# EAGLE library part OPA2690 (library kamiki)
Dual, Wideband, Voltage-Feedback Operational Amplifier with Disable
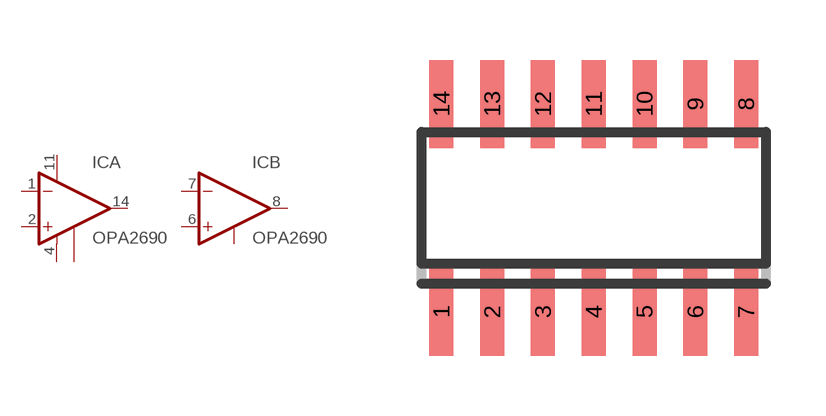
[diagram p24: symbol with the pads of SO14; footprint SO14]

Designator prefix IC; gates A=OP-AMP+-INH B=OP-AMP-INH

## OPA2690-14D  [SO14]
1  A:-IN  in
2  A:+IN  in
3  A:-DISABLE  in
4  A:V-  pwr
5  B:-DISABLE  in
6  B:+IN  in
7  B:-IN  in
8  B:OUT  out
11  A:V+  pwr
14  A:OUT  out

## Footprint SO14 (pad centres in mm)
SMALL OUTLINE INTEGRATED CIRCUIT body 3.9 mm/JEDEC MS-012AC
smd 0.6 x 2.2: 1 -3.81,-2.6; 2 -2.54,-2.6; 3 -1.27,-2.6; 4 0,-2.6; 5 1.27,-2.6; 6 2.54,-2.6; 7 3.81,-2.6; 8 3.81,2.6; 9 2.54,2.6; 10 1.27,2.6; 11 0,2.6; 12 -1.27,2.6; 13 -2.54,2.6; 14 -3.81,2.6